# EAGLE library part 7498011122R (library circuit_tree)
IC
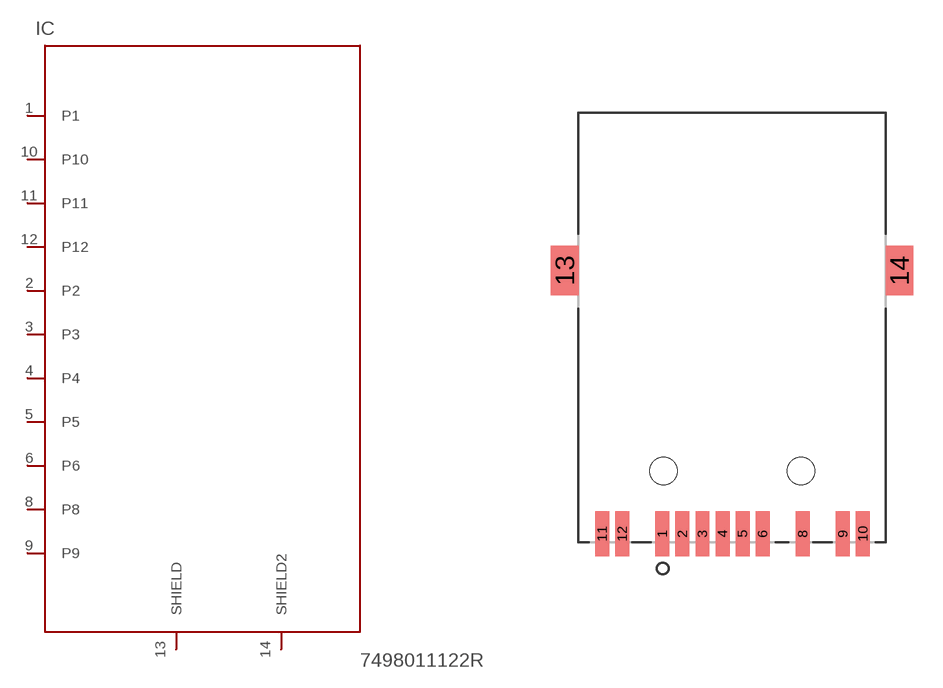
[diagram p0: symbol with the pads of 7498011122R; footprint 7498011122R]

Designator prefix IC

## 7498011122R  [7498011122R]
1  P1  pas
2  P2  pas
3  P3  pas
4  P4  pas
5  P5  pas
6  P6  pas
8  P8  pas
9  P9  pas
10  P10  pas
11  P11  pas
12  P12  pas
13  SHIELD  pas
14  SHIELD2  pas

## Footprint 7498011122R (pad centres in mm)
MAX HEIGHT=11.30mm PORTS----1X1 LED --Yes
smd 0.71 x 2.29: 1 -3.545,-3.18; 2 -2.525,-3.18; 3 -1.505,-3.18; 4 -0.485,-3.18; 5 0.535,-3.18; 6 1.555,-3.18; 8 3.595,-3.18; 9 5.635,-3.18; 10 6.655,-3.18; 11 -6.605,-3.18; 12 -5.585,-3.18
smd 1.4 x 2.54: 13 -8.51,10.2; 14 8.51,10.2
hole 1.4 at -3.5,0
hole 1.4 at 3.5,0